# Altium integrated library cap0805.IntLib: 1 symbol
Pins are listed as number, name and electrical type; pins without a type are passive.

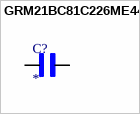
[diagram p0: symbol GRM21BC81C226ME44L]

## GRM21BC81C226ME44L
designator C?
SMD Capacitor X6S(EIA) with Capacitance: 22uF Tol. 20%. Rated Voltage: 16Vdc; MF: Murata; MP: GRM21BC81C226ME44L; SnapEDA_Link: https://www.snapeda.com/parts/GRM21BC81C226ME44L/Murata/view-part/?ref=snap; Package: 2012 Murata; Value: *; Check_prices: https://www.snapeda.com/parts/GRM21BC81C226ME44L/Murata/view-part/?ref=eda
footprint CAPC2012X145N
pins: 1, 2